# Altium schematic symbol library STM32F100C.SchLib: 1 symbol
Pins are listed as number, name and electrical type; pins without a type are passive.

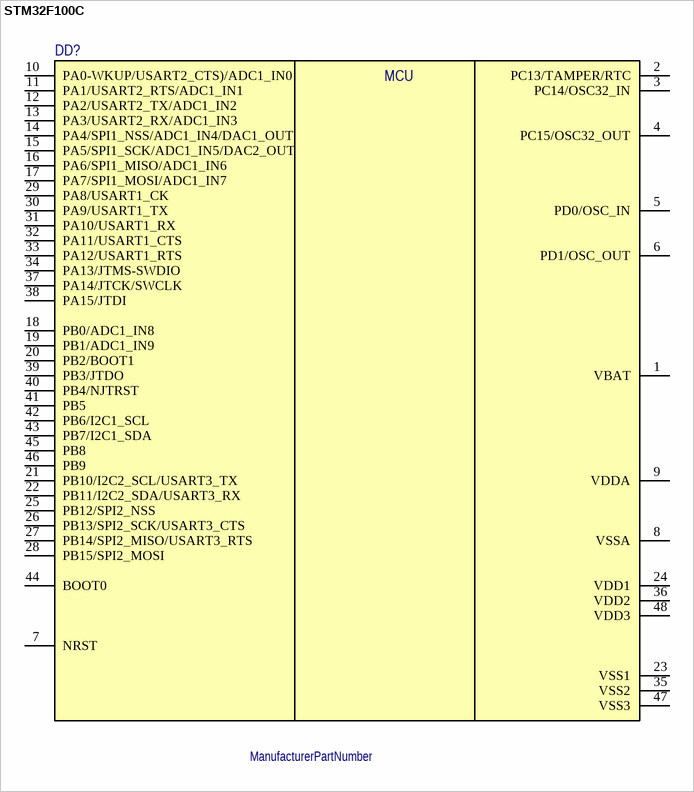
[diagram p0: symbol STM32F100C]

## STM32F100C
designator DD?  (value not drawn)
ManufacturerPartNumber: ManufacturerPartNumber
pins: 1 VBAT, 2 PC13/TAMPER/RTC, 3 PC14/OSC32_IN, 4 PC15/OSC32_OUT, 5 PD0/OSC_IN, 6 PD1/OSC_OUT, 7 NRST, 8 VSSA, 9 VDDA, 10 PA0-WKUP/USART2_CTS)/ADC1_IN0, 11 PA1/USART2_RTS/ADC1_IN1, 12 PA2/USART2_TX/ADC1_IN2, 13 PA3/USART2_RX/ADC1_IN3, 14 PA4/SPI1_NSS/ADC1_IN4/DAC1_OUT, 15 PA5/SPI1_SCK/ADC1_IN5/DAC2_OUT, 16 PA6/SPI1_MISO/ADC1_IN6, 17 PA7/SPI1_MOSI/ADC1_IN7, 18 PB0/ADC1_IN8, 19 PB1/ADC1_IN9, 20 PB2/BOOT1, 21 PB10/I2C2_SCL/USART3_TX, 22 PB11/I2C2_SDA/USART3_RX, 23 VSS1, 24 VDD1, 25 PB12/SPI2_NSS, 26 PB13/SPI2_SCK/USART3_CTS, 27 PB14/SPI2_MISO/USART3_RTS, 28 PB15/SPI2_MOSI, 29 PA8/USART1_CK, 30 PA9/USART1_TX, 31 PA10/USART1_RX, 32 PA11/USART1_CTS, 33 PA12/USART1_RTS, 34 PA13/JTMS-SWDIO, 35 VSS2, 36 VDD2, 37 PA14/JTCK/SWCLK, 38 PA15/JTDI, 39 PB3/JTDO, 40 PB4/NJTRST, 41 PB5, 42 PB6/I2C1_SCL, 43 PB7/I2C1_SDA, 44 BOOT0, 45 PB8, 46 PB9, 47 VSS3, 48 VDD3
text: MCU